# Altium footprint library M4QIDB-PCB-01.PcbLib: 64 footprints (part 2 of 4)
Each footprint in its own frame and in the unit in brackets; x right, y up, seen from the top. Pads: shape width x height; smd on the part's side, far side on the other; paste and mask are expansions set on the pad; w line width, h text height; cw(c..) or ccw(c..) is an arc to the next point about the centre after c.
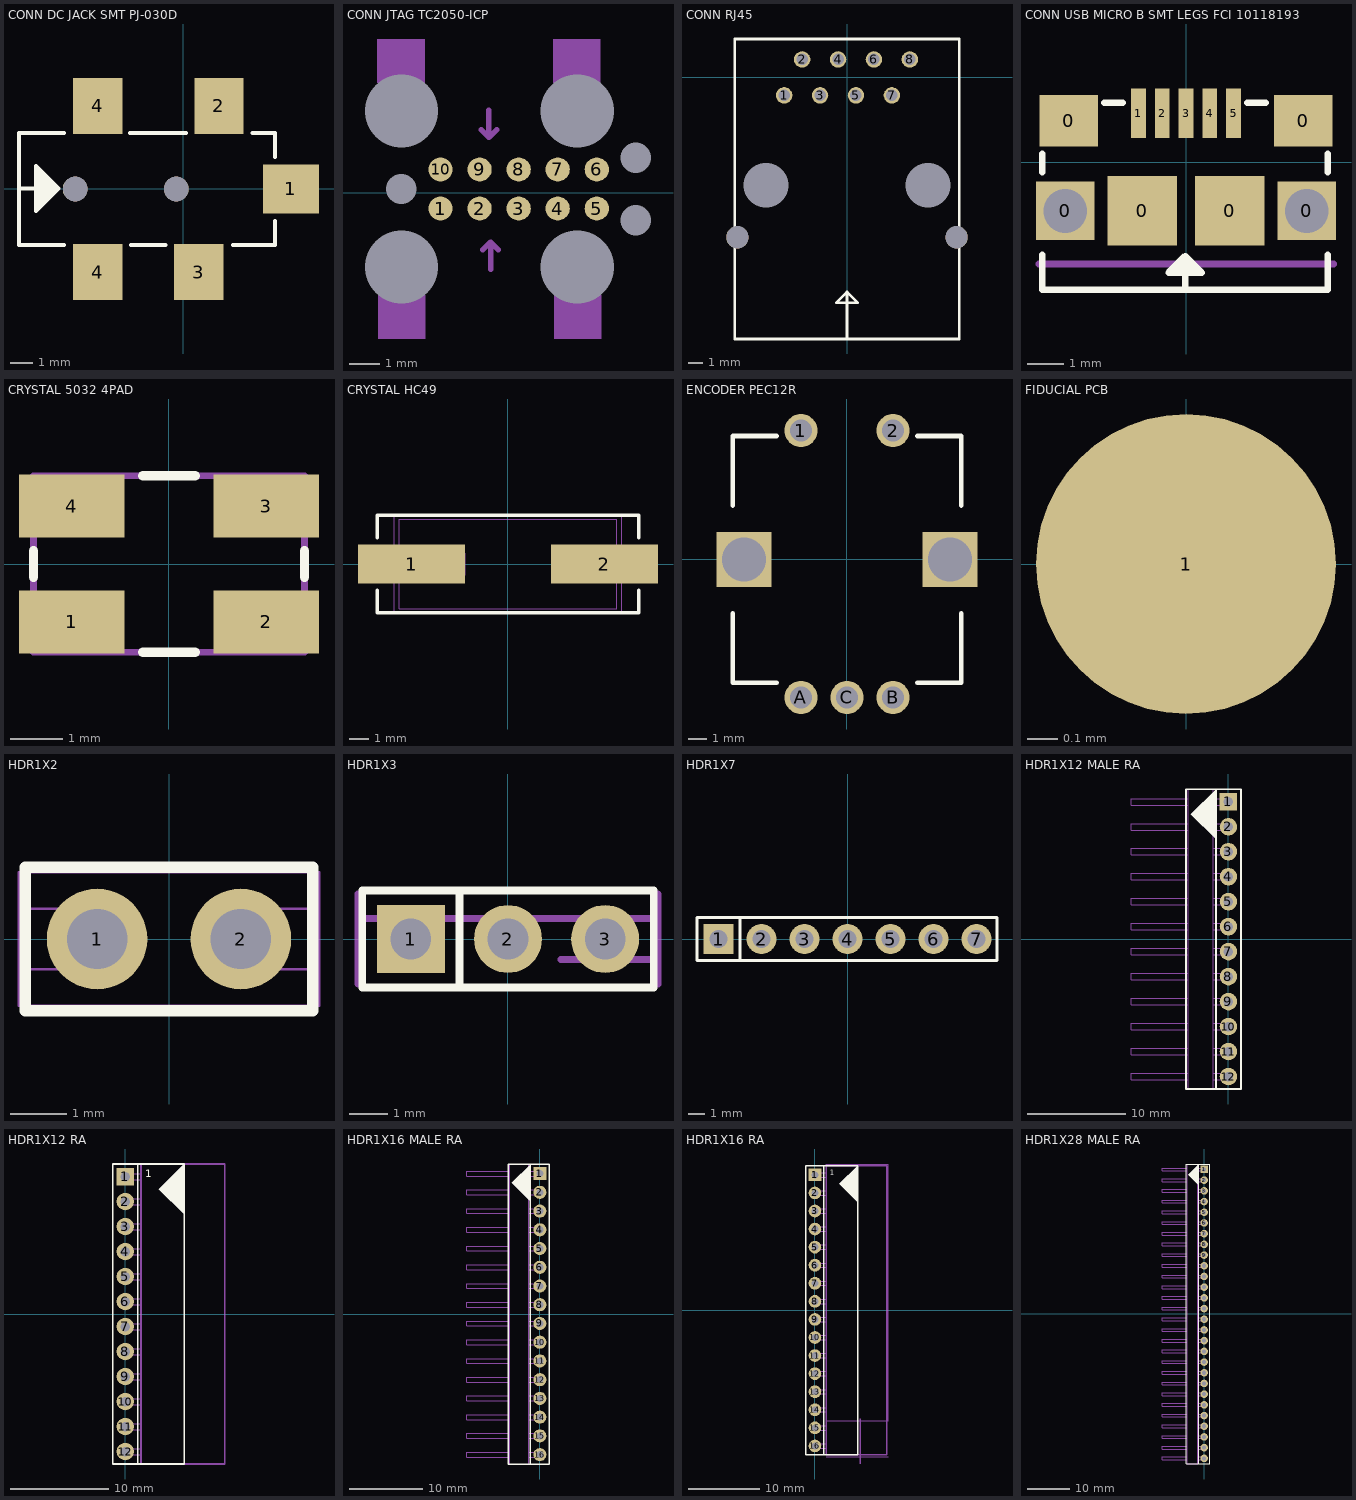
[diagram p1: the footprints below, top view; thin cyan lines are the x and y axes]

## CONN DC JACK SMT PJ-030D [mm]
pads (7):
  rect 2.5x2.2 smd: 1(4.8,0)
  rect 2.2x2.5 smd: 2(1.6,3.7) 3(0.7,-3.7) 4(-3.8,-3.7) 4(-3.8,3.7)
  round 1.1 hole 1.1 unplated: ""(-4.8,0) ""(-0.3,0)
Top Overlay:
  lines w0.178: -7.25,0.025 -5.55,0.025 ; -6.333,-0.758 -6.2,-0.625 -6.2,0.675 -6.375,0.85 ; -6.199,-0.624 -6.025,-0.45 -6.025,0.45 -5.85,0.275 -5.85,-0.275 -5.985,-0.41 ; -5.3,-2.5 -7.3,-2.5 -7.3,2.5 -5.3,2.5 ; -2.35,2.5 0.125,2.5 ; -2.325,-2.5 -0.775,-2.5 ; 2.225,-2.5 4.1,-2.5 4.1,-1.425 ; 3.1,2.5 4.1,2.5 4.1,1.425 ; -6.55,-0.975 -6.375,-0.8 -6.375,0.85 ; -6.55,-0.975 -6.55,1.025 ; -6.55,-0.975 -5.55,0.025 ; -6.55,1.025 -6.375,0.85 ; -6.55,1.025 -5.55,0.025
3D body: height 7.4, standoff -0.8, extent -7.325,-4.525 5.575,4.475

## CONN JTAG TC2050-ICP [mil]
pads (17):
  round 31 smd paste-100: 1(230.71,-20.08) 2(280.71,-20.08) 3(330.71,-20.08) 4(380.71,-20.08) 5(430.71,-20.08) 6(430.71,29.92) 7(380.71,29.92) 8(330.71,29.92) 9(280.71,29.92) 10(230.71,29.92)
  round 31 hole 93.5 unplated paste-100 mask-100: ""(180.71,-95.08) ""(180.71,104.92) ""(405.71,-95.08) ""(405.71,104.92)
  round 31 hole 39 unplated paste-100 mask-100: ""(180.71,4.92) ""(480.71,-35.08) ""(480.71,44.92)
Mechanical 5:
  lines w7: 282.71,80.92 292.71,70.92 ; 284.71,-73.08 294.71,-63.08 ; 292.71,105.92 292.71,70.92 ; 294.71,-98.08 294.71,-63.08 ; 302.71,80.92 292.71,70.92 ; 304.71,-73.08 294.71,-63.08
  text "ACCESS" at 237.71,-134.08 h20
  text "ACCESS" at 237.71,120.92 h20
Mechanical 6:
  rectangle: 150.71,-187.08 211.71,-131.08
  rectangle: 375.71,-187.08 436.71,-131.08
  region: 210.71,196.92 149.71,196.92 149.71,140.92 210.71,140.92
  region: 435.71,196.92 374.71,196.92 374.71,140.92 435.71,140.92

## CONN RJ45 [mil]
height 535
pads (12):
  round 46 hole 32: 1(-175,-50) 2(-125,50) 3(-75,-50) 4(-25,50) 5(25,-50) 6(75,50) 7(125,-50) 8(175,50)
  round 62 hole 62 unplated: ""(-305,-445) ""(305,-445)
  round 120 hole 125 unplated: ""(-225,-300) ""(225,-300)
Top Overlay:
  lines w7: 0,-728 0,-597.09 ; 0,-597.09 -30.51,-627.61 30.51,-627.61 0,-597.09 ; -312.5,-728 -312.5,107 312.5,107 312.5,-728 -312.5,-728

## CONN USB MICRO B SMT LEGS FCI 10118193 [mm]
pads (11):
  rect 1.6x1.6 hole 1.2: 0(-3.3,-1.337) 0(3.3,-1.337)
  rect 1.6x1.4 smd: 0(-3.2,1.126) 0(3.2,1.127)
  rect 1.9x1.9 smd: 0(-1.2,-1.337) 0(1.2,-1.337)
  rect 0.4x1.35 smd: 1(-1.3,1.338) 2(-0.65,1.338) 3(0,1.338) 4(0.65,1.338) 5(1.3,1.338)
Top Overlay:
  lines w0.178: -3.925,-3.487 3.875,-3.487 3.875,-2.537 ; -3.925,-3.471 -3.925,-2.537 ; -3.925,-0.28 -3.925,0.22 ; -2.235,1.62 -1.725,1.62 ; -0.303,-2.85 0.153,-2.85 0.175,-2.872 ; -0.025,-3.446 -0.025,-2.572 ; 1.675,1.62 2.185,1.62 ; 3.875,-0.28 3.875,0.22 ; -0.025,-2.572 -0.475,-3.022 0.425,-3.022 -0.025,-2.572
Mechanical 1:
  lines w0.178: -4.021,-2.787 4.039,-2.787
  text "BOARD EDGE" at -2.54,-3.113 h0.2
3D body: height 2.71, standoff -0.23, extent -3.99,-3.937 3.99,1.493

## CRYSTAL 5032 4PAD [mm]
pads (4):
  rect 2x1.2 smd: 1(-1.85,-1.1) 2(1.85,-1.1) 3(1.85,1.1) 4(-1.85,1.1)
Top Overlay:
  lines w0.178: -2.575,-0.25 -2.575,0.25 ; -0.5,-1.675 0.5,-1.675 ; -0.5,1.675 0.5,1.675 ; 2.575,-0.25 2.575,0.25
Mechanical 7:
  lines w0.127: -2.575,-1.675 2.575,-1.675 2.575,1.675 -2.575,1.675 -2.575,-1.675
3D body: height 1.05, standoff 1.05, extent -2.148,-1.399 -1.55,-0.801
3D body: height 1.05, standoff 0, extent -2.575,-1.675 2.575,1.675

## CRYSTAL HC49 [mm]
pads (2):
  rect 5.5x2 smd: 1(-4.95,0) 2(4.95,0)
Top Overlay:
  lines w0.178: -6.7,-1.35 -6.7,-2.5 6.7,-2.5 6.7,-1.35 ; -6.7,1.35 -6.7,2.5 6.7,2.5 6.7,1.35
Mechanical 7:
  lines w0.025: -6.65,-0.55 -2.2,-0.55 -2.2,0.55 -6.65,0.55 -6.65,-0.55 ; -5.85,-2.5 5.85,-2.5 5.85,2.5 -5.85,2.5 -5.85,-2.5 ; -5.588,-2.286 5.588,-2.286 5.588,2.286 -5.588,2.286 -5.588,-2.286
3D body: height 0.1, standoff 0, extent 2.2,-0.55 6.65,0.55
3D body: height 4.5, standoff 0, extent -5.588,-2.286 5.588,2.286
3D body: height 0.9, standoff 0, extent -5.85,-2.5 5.85,2.5
3D body: height 0.1, standoff 0, extent -6.65,-0.55 -2.2,0.55

## ENCODER PEC12R [mm]
height 20
pads (7):
  round 1.8 hole 1.2 paste+0: 1(-2.5,7) 2(2.5,7) A(-2.5,-7.5) B(2.5,-7.5) C(0,-7.5)
  rect 3x3 hole 2.4: ""(-5.6,0) ""(5.6,0)
Top Overlay:
  lines w0.254: -6.2,-2.925 -6.2,-6.7 -3.825,-6.7 ; -6.2,2.925 -6.2,6.7 -3.825,6.7 ; 3.825,-6.7 6.2,-6.7 6.2,-2.925 ; 3.825,6.7 6.2,6.7 6.2,2.925
3D body: height 20, standoff -3.5, extent -7,-7.7 7,7.05

## FIDUCIAL PCB [mm]
pads (1):
  round 1 smd paste-2.54 mask+0.102: 1(0,0)

## HDR1X2 [mil]
pads (2):
  round 70 hole 42: 1(-50,0) 2(50,0)
Top Overlay:
  lines w8: -100,-50 100,-50 100,50 -100,50 -100,-50
Mechanical 7:
  lines w1.97: -104.33,-21.06 -71.06,-21.06 ; -104.33,21.06 -71.06,21.06 ; -28.94,0 -50,0 ; 28.94,0 50,0 ; 104.33,-21.06 71.06,-21.06 ; 104.33,21.06 71.06,21.06 ; -71.06,-21.06 -50,-21.06 ; -71.06,-21.06 -71.06,0 ; -71.06,0 -71.06,21.06 ; -71.06,0 -50,0 ; -71.06,21.06 -50,21.06 ; -50,-21.06 -28.94,-21.06 -28.94,21.06 -50,21.06 ; -50,-21.06 -50,0 ; -50,0 -50,21.06 ; 50,-21.06 50,0 ; 50,-21.06 71.06,-21.06 ; 50,-21.06 28.94,-21.06 28.94,21.06 50,21.06 ; 50,0 71.06,0 ; 50,0 50,21.06 ; 50,21.06 71.06,21.06 ; 71.06,-21.06 71.06,0 ; 71.06,0 71.06,21.06 ; -104.33,-46.46 104.33,-46.46 104.33,46.46 -104.33,46.46 -104.33,-46.46
3D body: height 424.8, standoff -135.04, extent 28.93,-21.07 71.06,21.06
3D body: height 424.8, standoff -135.04, extent -71.06,-21.06 -28.94,21.06
3D body: height 129.92, standoff 0, extent 71.06,-21.06 104.33,21.06
3D body: height 129.92, standoff 0, extent -28.94,-21.06 28.94,21.06
3D body: height 129.92, standoff 0, extent -104.33,-21.06 -71.06,21.06
3D body: height 129.92, standoff 0, extent -104.33,-46.46 104.33,-21.06
3D body: height 129.92, standoff 0, extent -104.33,21.06 104.33,46.46

## HDR1X3 [mil]
pads (3):
  rect 70x70 hole 42: 1(-100,0)
  round 70 hole 42: 2(0,0) 3(100,0)
Top Overlay:
  lines w8: -50,-50 -50,50 ; -150,-50 -150,50 150,50 150,-50 -150,-50
Mechanical 7:
  lines w7: -154.33,-46.45 -154.33,46.46 ; -154.33,21.07 154.33,21.07 ; 54.33,-21.06 154.33,-21.06 ; 154.32,-46.46 154.32,46.45
3D body: height 334.65, standoff -118.11, extent 87.21,-12.8 112.8,12.79
3D body: height 334.65, standoff -118.11, extent -12.79,-12.8 12.8,12.79
3D body: height 334.65, standoff -118.11, extent -112.79,-12.8 -87.2,12.79
3D body: height 129.92, standoff 0, extent -154.33,21.07 154.33,46.46
3D body: height 129.92, standoff 0, extent -154.33,-46.46 154.33,-21.06
3D body: height 129.92, standoff 0, extent -154.33,-21.06 -121.06,21.07
3D body: height 129.92, standoff 0, extent -78.93,-21.06 -21.06,21.07
3D body: height 129.92, standoff 0, extent 21.07,-21.06 154.33,21.07

## HDR1X7 [mil]
pads (7):
  rect 70x70 hole 42: 1(-300,0)
  round 70 hole 42: 2(-200,0) 3(-100,0) 4(0,0) 5(100,0) 6(200,0) 7(300,0)
Top Overlay:
  lines w8: -250,-50 -250,50 ; -350,-50 347.64,-50 347.64,50 -350,50 -350,-50
3D body: height 129.92, standoff 0, extent 245.67,-21.06 278.94,21.06
3D body: height 424.8, standoff -135.04, extent 178.94,-21.06 221.07,21.07
3D body: height 424.8, standoff -135.04, extent 78.94,-21.06 121.07,21.07
3D body: height 129.92, standoff 0, extent 221.07,-21.06 254.34,21.07
3D body: height 129.92, standoff 0, extent 121.07,-21.06 178.94,21.07
3D body: height 129.92, standoff 0, extent 45.68,-21.06 78.94,21.07
3D body: height 129.92, standoff 0, extent 45.68,-46.45 254.34,-21.06
3D body: height 129.92, standoff 0, extent 45.68,21.07 254.34,46.46
3D body: height 424.8, standoff -135.04, extent -21.07,-21.07 21.06,21.06
3D body: height 424.8, standoff -135.04, extent -121.06,-21.06 -78.94,21.06
3D body: height 129.92, standoff 0, extent 21.06,-21.06 54.33,21.06
3D body: height 129.92, standoff 0, extent -78.94,-21.06 -21.06,21.06
3D body: height 129.92, standoff 0, extent -154.33,-21.06 -121.06,21.06
3D body: height 129.92, standoff 0, extent -154.33,-46.46 54.33,-21.06
3D body: height 129.92, standoff 0, extent -154.33,21.06 54.33,46.46
3D body: height 424.8, standoff -135.04, extent -221.07,-21.07 -178.94,21.06
3D body: height 424.8, standoff -135.04, extent -321.06,-21.06 -278.94,21.06
3D body: height 129.92, standoff 0, extent -178.94,-21.06 -145.67,21.06
3D body: height 129.92, standoff 0, extent -278.94,-21.06 -221.06,21.06
3D body: height 129.92, standoff 0, extent -354.33,-21.06 -321.06,21.06
3D body: height 129.92, standoff 0, extent -354.33,-46.46 -145.67,-21.06
3D body: height 129.92, standoff 0, extent -354.33,21.06 -145.67,46.46
3D body: height 129.92, standoff 0, extent 145.68,21.07 354.34,46.46
3D body: height 129.92, standoff 0, extent 145.68,-46.45 354.34,-21.06
3D body: height 129.92, standoff 0, extent 321.07,-21.06 354.34,21.07
3D body: height 424.8, standoff -135.04, extent 278.94,-21.06 321.07,21.07
3D body: height 424.8, standoff -135.04, extent 278.94,-21.06 321.07,21.07

## HDR1X12 MALE RA [mil]
pads (12):
  rect 70x70 hole 38: 1(0,550)
  round 70 hole 38: 2(0,450) 3(0,350) 4(0,250) 5(0,150) 6(0,50) 7(0,-50) 8(0,-150) 9(0,-250) 10(0,-350) 11(0,-450) 12(0,-550)
Top Overlay:
  region: -49.21,601.18 -49.21,400.39 -150.59,500.79
  lines w7: -50,-600 -50,600 ; -170,-600 -170,600 50,600 50,-600 -170,-600
Mechanical 7:
  lines w3.94: -160,-600 -60,-600 ; -160,-600 -60,-600 ; -160,-600 -160,600 -60,600 -60,-600 ; -13,-563 -60,-563 -60,-537 13,-537 ; -13,-563 -13,-537 13,-537 ; -13,-563 13,-563 13,-537 ; -13,-463 -60,-463 -60,-437 13,-437 ; -13,-463 -13,-437 13,-437 ; -13,-463 13,-463 13,-437 ; -13,-363 -60,-363 -60,-337 13,-337 ; -13,-363 -13,-337 13,-337 ; -13,-363 13,-363 13,-337 ; -13,-263 -60,-263 -60,-237 13,-237 ; -13,-263 -13,-237 13,-237 ; -13,-263 13,-263 13,-237 ; -13,-163 -60,-163 -60,-137 13,-137 ; -13,-163 -13,-137 13,-137 ; -13,-163 13,-163 13,-137 ; -13,-63 -60,-63 -60,-37 13,-37 ; -13,-63 -13,-37 13,-37 ; -13,-63 13,-63 13,-37 ; -13,37 -60,37 -60,63 13,63 ; -13,37 -13,63 13,63 ; -13,37 13,37 13,63 ; -13,137 -60,137 -60,163 13,163 ; -13,137 -13,163 13,163 ; -13,137 13,137 13,163 ; -13,237 -60,237 -60,263 13,263 ; -13,237 -13,263 13,263 ; -13,237 13,237 13,263 ; -13,337 -60,337 -60,363 13,363 ; -13,337 -13,363 13,363 ; -13,337 13,337 13,363 ; -13,437 -60,437 -60,463 13,463 ; -13,437 -13,463 13,463 ; -13,437 13,437 13,463 ; -13,537 13,537 13,563 ; -13,537 -13,563 13,563 ; -13,537 -60,537 -60,563 13,563 ; -390,-563 -160,-563 -160,-537 -390,-537 -390,-563 ; -390,-463 -160,-463 -160,-437 -390,-437 -390,-463 ; -390,-363 -160,-363 -160,-337 -390,-337 -390,-363 ; -390,-263 -160,-263 -160,-237 -390,-237 -390,-263 ; -390,-163 -160,-163 -160,-137 -390,-137 -390,-163 ; -390,-63 -160,-63 -160,-37 -390,-37 -390,-63 ; -390,37 -160,37 -160,63 -390,63 -390,37 ; -390,137 -160,137 -160,163 -390,163 -390,137 ; -390,237 -160,237 -160,263 -390,263 -390,237 ; -390,337 -160,337 -160,363 -390,363 -390,337 ; -390,437 -160,437 -160,463 -390,463 -390,437 ; -390,537 -390,563 -160,563 -160,537 -390,537
3D body: height 95, standoff 0, extent -160,-600 -60,600
3D body: height 61, standoff -100, extent -13,537 13,563
3D body: height 61, standoff 35, extent -60,537 -13,563
3D body: height 61, standoff 35, extent -390,537 -160,563
3D body: height 61, standoff 35, extent -390,437 -160,463
3D body: height 61, standoff 35, extent -60,437 -13,463
3D body: height 61, standoff -100, extent -13,437 13,463
3D body: height 61, standoff 35, extent -390,337 -160,363
3D body: height 61, standoff 35, extent -60,337 -13,363
3D body: height 61, standoff -100, extent -13,337 13,363
3D body: height 61, standoff 35, extent -390,237 -160,263
3D body: height 61, standoff 35, extent -60,237 -13,263
3D body: height 61, standoff -100, extent -13,237 13,263
3D body: height 61, standoff 35, extent -390,137 -160,163
3D body: height 61, standoff 35, extent -60,137 -13,163
3D body: height 61, standoff -100, extent -13,137 13,163
3D body: height 61, standoff 35, extent -390,37 -160,63
3D body: height 61, standoff 35, extent -60,37 -13,63
3D body: height 61, standoff -100, extent -13,37 13,63
3D body: height 61, standoff 35, extent -390,-63 -160,-37
3D body: height 61, standoff 35, extent -60,-63 -13,-37
3D body: height 61, standoff -100, extent -13,-63 13,-37
3D body: height 61, standoff 35, extent -390,-163 -160,-137
3D body: height 61, standoff 35, extent -60,-163 -13,-137
3D body: height 61, standoff -100, extent -13,-163 13,-137
3D body: height 61, standoff 35, extent -390,-263 -160,-237
3D body: height 61, standoff 35, extent -60,-263 -13,-237
3D body: height 61, standoff -100, extent -13,-263 13,-237
3D body: height 61, standoff 35, extent -390,-363 -160,-337
3D body: height 61, standoff 35, extent -60,-363 -13,-337
3D body: height 61, standoff -100, extent -13,-363 13,-337
3D body: height 61, standoff 35, extent -390,-463 -160,-437
3D body: height 61, standoff 35, extent -60,-463 -13,-437
3D body: height 61, standoff -100, extent -13,-463 13,-437
3D body: height 61, standoff 35, extent -390,-563 -160,-537
3D body: height 61, standoff 35, extent -60,-563 -13,-537
3D body: height 61, standoff -100, extent -13,-563 13,-537

## HDR1X12 RA [mil]
pads (12):
  rect 70x70 hole 38: 1(0,550)
  round 70 hole 38: 2(0,450) 3(0,350) 4(0,250) 5(0,150) 6(0,50) 7(0,-50) 8(0,-150) 9(0,-250) 10(0,-350) 11(0,-450) 12(0,-550)
Top Overlay:
  region: 236.22,600.2 236.22,399.41 134.84,499.8
  lines w7: -50,600 -50,-600 236.22,-600 236.22,600.2 -50,600.07 ; 50,-600 50,600
  text "1" at 80.71,547.64 h30
Mechanical 5:
  lines w7: 62.99,-600 62.99,600 397.64,600 397.64,-600 62.99,-600
Mechanical 7:
  lines w1: -8,-550 8,-550 ; -8,-450 8,-450 ; -8,-350 8,-350 ; -8,-250 8,-250 ; -8,-150 8,-150 ; -8,-50 8,-50 ; -8,50 8,50 ; -8,150 8,150 ; -8,250 8,250 ; -8,350 8,350 ; -8,450 8,450 ; -8,550 8,550 ; 0,-562 0,-538 ; 0,-462 0,-438 ; 0,-362 0,-338 ; 0,-262 0,-238 ; 0,-162 0,-138 ; 0,-62 0,-38 ; 0,38 0,62 ; 0,138 0,162 ; 0,238 0,262 ; 0,338 0,362 ; 0,438 0,462 ; 0,538 0,562 ; 63.8,-562 8,-562 ; 63.8,-538 8,-538 ; 63.8,-462 8,-462 ; 63.8,-438 8,-438 ; 63.8,-362 8,-362 ; 63.8,-338 8,-338 ; 63.8,-262 8,-262 ; 63.8,-238 8,-238 ; 63.8,-162 8,-162 ; 63.8,-138 8,-138 ; 63.8,-62 8,-62 ; 63.8,-38 8,-38 ; 63.8,38 8,38 ; 63.8,62 8,62 ; 63.8,138 8,138 ; 63.8,162 8,162 ; 63.8,238 8,238 ; 63.8,262 8,262 ; 63.8,338 8,338 ; 63.8,362 8,362 ; 63.8,438 8,438 ; 63.8,462 8,462 ; 63.8,538 8,538 ; 63.8,562 8,562 ; 8,-562 -8,-562 -8,-538 8,-538 ; 8,-562 8,-538 ; 8,-462 8,-438 ; 8,-462 -8,-462 -8,-438 8,-438 ; 8,-362 8,-338 ; 8,-362 -8,-362 -8,-338 8,-338 ; 8,-262 8,-238 ; 8,-262 -8,-262 -8,-238 8,-238 ; 8,-162 8,-138 ; 8,-162 -8,-162 -8,-138 8,-138 ; 8,-62 8,-38 ; 8,-62 -8,-62 -8,-38 8,-38 ; 8,38 8,62 ; 8,38 -8,38 -8,62 8,62 ; 8,138 8,162 ; 8,138 -8,138 -8,162 8,162 ; 8,238 8,262 ; 8,238 -8,238 -8,262 8,262 ; 8,338 8,362 ; 8,338 -8,338 -8,362 8,362 ; 8,438 8,462 ; 8,438 -8,438 -8,462 8,462 ; 8,538 8,562 ; 8,538 -8,538 -8,562 8,562
  lines w5: 63.8,-600 63.8,600 400,600 400,-600
3D body: height 66, standoff -132, extent -8,-562 8,-538
3D body: height 66, standoff -132, extent -7.99,-461.99 8.01,-437.99
3D body: height 66, standoff -132, extent -7.99,-361.99 8.01,-337.99
3D body: height 66, standoff -132, extent -7.99,-261.99 8.01,-237.99
3D body: height 66, standoff -132, extent -7.99,-161.99 8.01,-137.99
3D body: height 66, standoff -132, extent -7.99,-61.99 8.01,-37.99
3D body: height 66, standoff -132, extent -7.99,38.01 8.01,62.01
3D body: height 66, standoff -132, extent -7.99,138.01 8.01,162.01
3D body: height 66, standoff -132, extent -7.99,238.01 8.01,262.01
3D body: height 66, standoff -132, extent -7.99,338.01 8.01,362.01
3D body: height 66, standoff -132, extent -7.99,438.01 8.01,462.01
3D body: height 66, standoff -132, extent -7.99,538.01 8.01,562.01
3D body: height 66, standoff 42, extent 8,-562 63.8,-538
3D body: height 66, standoff 42, extent 8.01,-461.99 63.81,-437.99
3D body: height 66, standoff 42, extent 8.01,-361.99 63.81,-337.99
3D body: height 66, standoff 42, extent 8.01,-261.99 63.81,-237.99
3D body: height 66, standoff 42, extent 8.01,-161.99 63.81,-137.99
3D body: height 66, standoff 42, extent 8.01,-61.99 63.81,-37.99
3D body: height 66, standoff 42, extent 8.01,38.01 63.81,62.01
3D body: height 66, standoff 42, extent 8.01,138.01 63.81,162.01
3D body: height 66, standoff 42, extent 8.01,238.01 63.81,262.01
3D body: height 66, standoff 42, extent 8.01,338.01 63.81,362.01
3D body: height 66, standoff 42, extent 8.01,438.01 63.81,462.01
3D body: height 66, standoff 42, extent 8.01,538.01 63.81,562.01
3D body: height 108, standoff 0, extent 62.99,-600 400,600

## HDR1X16 MALE RA [mil]
pads (16):
  rect 70x70 hole 38: 1(0,750)
  round 70 hole 38: 2(0,650) 3(0,550) 4(0,450) 5(0,350) 6(0,250) 7(0,150) 8(0,50) 9(0,-50) 10(0,-150) 11(0,-250) 12(0,-350) 13(0,-450) 14(0,-550) 15(0,-650) 16(0,-750)
Top Overlay:
  region: -49.21,801.18 -49.21,600.39 -150.59,700.79
  lines w7: -50,-800 -50,800 ; -170,-800 -170,800 50,800 50,-800 -170,-800
Mechanical 7:
  drawing of 181 lines, arcs and shapes, not listed
3D body: height 61, standoff -100, extent -13,-763 13,-737
3D body: height 61, standoff 35, extent -60,-763 -13,-737
3D body: height 61, standoff 35, extent -390,-763 -160,-737
3D body: height 61, standoff -100, extent -13,-663 13,-637
3D body: height 61, standoff 35, extent -60,-663 -13,-637
3D body: height 61, standoff 35, extent -390,-663 -160,-637
3D body: height 61, standoff -100, extent -13,-563 13,-537
3D body: height 61, standoff 35, extent -60,-563 -13,-537
3D body: height 61, standoff 35, extent -390,-563 -160,-537
3D body: height 61, standoff -100, extent -13,-463 13,-437
3D body: height 61, standoff 35, extent -60,-463 -13,-437
3D body: height 61, standoff 35, extent -390,-463 -160,-437
3D body: height 95, standoff 0, extent -160,-800 -60,800
3D body: height 61, standoff -100, extent -13,737 13,763
3D body: height 61, standoff 35, extent -60,737 -13,763
3D body: height 61, standoff 35, extent -390,737 -160,763
3D body: height 61, standoff 35, extent -390,637 -160,663
3D body: height 61, standoff 35, extent -60,637 -13,663
3D body: height 61, standoff -100, extent -13,637 13,663
3D body: height 61, standoff 35, extent -390,537 -160,563
3D body: height 61, standoff 35, extent -60,537 -13,563
3D body: height 61, standoff -100, extent -13,537 13,563
3D body: height 61, standoff 35, extent -390,437 -160,463
3D body: height 61, standoff 35, extent -60,437 -13,463
3D body: height 61, standoff -100, extent -13,437 13,463
3D body: height 61, standoff 35, extent -390,337 -160,363
3D body: height 61, standoff 35, extent -60,337 -13,363
3D body: height 61, standoff -100, extent -13,337 13,363
3D body: height 61, standoff 35, extent -390,237 -160,263
3D body: height 61, standoff 35, extent -60,237 -13,263
3D body: height 61, standoff -100, extent -13,237 13,263
3D body: height 61, standoff 35, extent -390,137 -160,163
3D body: height 61, standoff 35, extent -60,137 -13,163
3D body: height 61, standoff -100, extent -13,137 13,163
3D body: height 61, standoff 35, extent -390,37 -160,63
3D body: height 61, standoff 35, extent -60,37 -13,63
3D body: height 61, standoff -100, extent -13,37 13,63
3D body: height 61, standoff 35, extent -390,-63 -160,-37
3D body: height 61, standoff 35, extent -60,-63 -13,-37
3D body: height 61, standoff -100, extent -13,-63 13,-37
3D body: height 61, standoff 35, extent -390,-163 -160,-137
3D body: height 61, standoff 35, extent -60,-163 -13,-137
3D body: height 61, standoff -100, extent -13,-163 13,-137
3D body: height 61, standoff 35, extent -390,-263 -160,-237
3D body: height 61, standoff 35, extent -60,-263 -13,-237
3D body: height 61, standoff -100, extent -13,-263 13,-237
3D body: height 61, standoff 35, extent -390,-363 -160,-337
3D body: height 61, standoff 35, extent -60,-363 -13,-337
3D body: height 61, standoff -100, extent -13,-363 13,-337

## HDR1X16 RA [mil]
pads (16):
  rect 70x70 hole 38: 1(0,750)
  round 70 hole 38: 2(0,650) 3(0,550) 4(0,450) 5(0,350) 6(0,250) 7(0,150) 8(0,50) 9(0,-50) 10(0,-150) 11(0,-250) 12(0,-350) 13(0,-450) 14(0,-550) 15(0,-650) 16(0,-750)
Top Overlay:
  region: 236.22,800.2 236.22,599.41 134.84,699.8
  lines w7: -50,800 -50,-800 236.22,-800 236.22,800.2 -50,800.07 ; 50,-800 50,800
  text "1" at 80.71,747.64 h30
Mechanical 5:
  lines w7: 250,-850 250,-600 ; 62.99,-800 397.64,-800 397.64,800 62.99,800 62.99,-800
  text "BOARD EDGE" at 43.31,-838.58 h20
Mechanical 7:
  lines w1: -8,-750 8,-750 ; -8,-650 8,-650 ; -8,-550 8,-550 ; -8,-450 8,-450 ; -8,-350 8,-350 ; -8,-250 8,-250 ; -8,-150 8,-150 ; -8,-50 8,-50 ; -8,50 8,50 ; -8,150 8,150 ; -8,250 8,250 ; -8,350 8,350 ; -8,450 8,450 ; -8,550 8,550 ; -8,650 8,650 ; -8,750 8,750 ; 0,-762 0,-738 ; 0,-662 0,-638 ; 0,-562 0,-538 ; 0,-462 0,-438 ; 0,-362 0,-338 ; 0,-262 0,-238 ; 0,-162 0,-138 ; 0,-62 0,-38 ; 0,38 0,62 ; 0,138 0,162 ; 0,238 0,262 ; 0,338 0,362 ; 0,438 0,462 ; 0,538 0,562 ; 0,638 0,662 ; 0,738 0,762 ; 63.8,-810 404.8,-810 ; 63.8,-762 8,-762 ; 63.8,-738 8,-738 ; 63.8,-662 8,-662 ; 63.8,-638 8,-638 ; 63.8,-562 8,-562 ; 63.8,-538 8,-538 ; 63.8,-462 8,-462 ; 63.8,-438 8,-438 ; 63.8,-362 8,-362 ; 63.8,-338 8,-338 ; 63.8,-262 8,-262 ; 63.8,-238 8,-238 ; 63.8,-162 8,-162 ; 63.8,-138 8,-138 ; 63.8,-62 8,-62 ; 63.8,-38 8,-38 ; 63.8,38 8,38 ; 63.8,62 8,62 ; 63.8,138 8,138 ; 63.8,162 8,162 ; 63.8,238 8,238 ; 63.8,262 8,262 ; 63.8,338 8,338 ; 63.8,362 8,362 ; 63.8,438 8,438 ; 63.8,462 8,462 ; 63.8,538 8,538 ; 63.8,562 8,562 ; 63.8,638 8,638 ; 63.8,662 8,662 ; 63.8,738 8,738 ; 63.8,762 8,762 ; 8,-762 8,-738 ; 8,-762 -8,-762 -8,-738 8,-738 ; 8,-662 -8,-662 -8,-638 8,-638 ; 8,-662 8,-638 ; 8,-562 -8,-562 -8,-538 8,-538 ; 8,-562 8,-538 ; 8,-462 8,-438 ; 8,-462 -8,-462 -8,-438 8,-438 ; 8,-362 8,-338 ; 8,-362 -8,-362 -8,-338 8,-338 ; 8,-262 -8,-262 -8,-238 8,-238 ; 8,-262 8,-238 ; 8,-162 -8,-162 -8,-138 8,-138 ; 8,-162 8,-138 ; 8,-62 -8,-62 -8,-38 8,-38 ; 8,-62 8,-38 ; 8,38 -8,38 -8,62 8,62 ; 8,38 8,62 ; 8,138 -8,138 -8,162 8,162 ; 8,138 8,162 ; 8,238 -8,238 -8,262 8,262 ; 8,238 8,262 ; 8,338 -8,338 -8,362 8,362 ; 8,338 8,362 ; 8,438 -8,438 -8,462 8,462 ; 8,438 8,462 ; 8,538 -8,538 -8,562 8,562 ; 8,538 8,562 ; 8,638 -8,638 -8,662 8,662 ; 8,638 8,662 ; 8,738 -8,738 -8,762 8,762 ; 8,738 8,762 ; 63.8,-610 63.8,810 404.8,810 404.8,-610 63.8,-610
3D body: height 66, standoff 42, extent 8.01,-661.99 63.81,-637.99
3D body: height 66, standoff 42, extent 8,-762 63.8,-738
3D body: height 66, standoff -132, extent -7.99,-661.99 8.01,-637.99
3D body: height 66, standoff -132, extent -8,-762 8,-738
3D body: height 108, standoff 0, extent 63.8,-810 404.8,810
3D body: height 66, standoff 42, extent 8.01,738.01 63.81,762.01
3D body: height 66, standoff 42, extent 8.01,638.01 63.81,662.01
3D body: height 66, standoff 42, extent 8.01,538.01 63.81,562.01
3D body: height 66, standoff 42, extent 8.01,438.01 63.81,462.01
3D body: height 66, standoff 42, extent 8.01,338.01 63.81,362.01
3D body: height 66, standoff 42, extent 8.01,238.01 63.81,262.01
3D body: height 66, standoff 42, extent 8.01,138.01 63.81,162.01
3D body: height 66, standoff 42, extent 8.01,38.01 63.81,62.01
3D body: height 66, standoff 42, extent 8.01,-61.99 63.81,-37.99
3D body: height 66, standoff 42, extent 8.01,-161.99 63.81,-137.99
3D body: height 66, standoff 42, extent 8.01,-261.99 63.81,-237.99
3D body: height 66, standoff 42, extent 8,-362 63.8,-338
3D body: height 66, standoff -132, extent -7.99,738.01 8.01,762.01
3D body: height 66, standoff -132, extent -7.99,638.01 8.01,662.01
3D body: height 66, standoff -132, extent -7.99,538.01 8.01,562.01
3D body: height 66, standoff -132, extent -7.99,438.01 8.01,462.01
3D body: height 66, standoff -132, extent -7.99,338.01 8.01,362.01
3D body: height 66, standoff -132, extent -7.99,238.01 8.01,262.01
3D body: height 66, standoff -132, extent -7.99,138.01 8.01,162.01
3D body: height 66, standoff -132, extent -7.99,38.01 8.01,62.01
3D body: height 66, standoff -132, extent -7.99,-61.99 8.01,-37.99
3D body: height 66, standoff -132, extent -7.99,-161.99 8.01,-137.99
3D body: height 66, standoff -132, extent -7.99,-261.99 8.01,-237.99
3D body: height 66, standoff -132, extent -8,-362 8,-338
3D body: height 66, standoff -132, extent -8,-562 8,-538
3D body: height 66, standoff -132, extent -7.99,-461.99 8.01,-437.99
3D body: height 66, standoff 42, extent 8,-562 63.8,-538
3D body: height 66, standoff 42, extent 8.01,-461.99 63.81,-437.99

## HDR1X28 MALE RA [mil]
pads (28):
  rect 70x70 hole 38: 1(0,1350)
  round 70 hole 38: 2(0,1250) 3(0,1150) 4(0,1050) 5(0,950) 6(0,850) 7(0,750) 8(0,650) 9(0,550) 10(0,450) 11(0,350) 12(0,250) 13(0,150) 14(0,50) 15(0,-50) 16(0,-150) 17(0,-250) 18(0,-350) 19(0,-450) 20(0,-550) 21(0,-650) 22(0,-750) 23(0,-850) 24(0,-950) 25(0,-1050) 26(0,-1150) 27(0,-1250) 28(0,-1350)
Top Overlay:
  region: -49.21,1401.18 -49.21,1200.39 -150.59,1300.79
  lines w7: -50,-1400 -50,1400 ; -170,-1400 50,-1400 50,1400 -170,1400 -170,-1400
Mechanical 7:
  drawing of 265 lines, arcs and shapes, not listed
3D body: height 61, standoff 35, extent -60,-1363 -13,-1337
3D body: height 61, standoff 35, extent -390,-1363 -160,-1337
3D body: height 61, standoff 35, extent -60,-1263 -13,-1237
3D body: height 61, standoff 35, extent -390,-1263 -160,-1237
3D body: height 61, standoff 35, extent -60,-1163 -13,-1137
3D body: height 61, standoff 35, extent -390,-1163 -160,-1137
3D body: height 61, standoff 35, extent -60,-1063 -13,-1037
3D body: height 61, standoff 35, extent -390,-1063 -160,-1037
3D body: height 61, standoff 35, extent -390,-263 -160,-237
3D body: height 61, standoff 35, extent -60,-263 -13,-237
3D body: height 61, standoff 35, extent -390,-363 -160,-337
3D body: height 61, standoff 35, extent -60,-363 -13,-337
3D body: height 61, standoff 35, extent -390,-463 -160,-437
3D body: height 61, standoff 35, extent -60,-463 -13,-437
3D body: height 61, standoff 35, extent -390,-563 -160,-537
3D body: height 61, standoff 35, extent -60,-563 -13,-537
3D body: height 61, standoff 35, extent -390,-663 -160,-637
3D body: height 61, standoff 35, extent -60,-663 -13,-637
3D body: height 61, standoff 35, extent -390,-763 -160,-737
3D body: height 61, standoff 35, extent -60,-763 -13,-737
3D body: height 61, standoff 35, extent -390,-863 -160,-837
3D body: height 61, standoff 35, extent -60,-863 -13,-837
3D body: height 61, standoff 35, extent -390,-963 -160,-937
3D body: height 61, standoff 35, extent -60,-963 -13,-937
3D body: height 61, standoff -100, extent -13,237 13,263
3D body: height 61, standoff 35, extent -60,237 -13,263
3D body: height 61, standoff 35, extent -390,237 -160,263
3D body: height 61, standoff -100, extent -13,337 13,363
3D body: height 61, standoff 35, extent -60,337 -13,363
3D body: height 61, standoff 35, extent -390,337 -160,363
3D body: height 61, standoff -100, extent -13,437 13,463
3D body: height 61, standoff 35, extent -60,437 -13,463
3D body: height 61, standoff 35, extent -390,437 -160,463
3D body: height 61, standoff -100, extent -13,537 13,563
3D body: height 61, standoff 35, extent -60,537 -13,563
3D body: height 61, standoff 35, extent -390,537 -160,563
3D body: height 61, standoff -100, extent -13,637 13,663
3D body: height 61, standoff 35, extent -60,637 -13,663
3D body: height 61, standoff 35, extent -390,637 -160,663
3D body: height 61, standoff -100, extent -13,737 13,763
3D body: height 61, standoff 35, extent -60,737 -13,763
3D body: height 61, standoff 35, extent -390,737 -160,763
3D body: height 61, standoff -100, extent -13,837 13,863
3D body: height 61, standoff 35, extent -60,837 -13,863
3D body: height 61, standoff 35, extent -390,837 -160,863
3D body: height 61, standoff -100, extent -13,937 13,963
3D body: height 61, standoff 35, extent -60,937 -13,963
3D body: height 61, standoff 35, extent -390,937 -160,963
3D body: height 61, standoff -100, extent -13,1037 13,1063
3D body: height 61, standoff 35, extent -60,1037 -13,1063
3D body: height 61, standoff 35, extent -390,1037 -160,1063
3D body: height 61, standoff -100, extent -13,1137 13,1163
3D body: height 61, standoff 35, extent -60,1137 -13,1163
3D body: height 61, standoff 35, extent -390,1137 -160,1163
3D body: height 61, standoff -100, extent -13,1237 13,1263
3D body: height 61, standoff 35, extent -60,1237 -13,1263
3D body: height 61, standoff 35, extent -390,1237 -160,1263
3D body: height 61, standoff 35, extent -390,1337 -160,1363
3D body: height 61, standoff 35, extent -60,1337 -13,1363
3D body: height 61, standoff -100, extent -13,1337 13,1363
3D body: height 95, standoff 0, extent -160,-1400 -60,1400
3D body: height 61, standoff 35, extent -390,137 -160,163
3D body: height 61, standoff 35, extent -60,137 -13,163
3D body: height 61, standoff -100, extent -13,137 13,163
3D body: height 61, standoff 35, extent -390,37 -160,63
3D body: height 61, standoff 35, extent -60,37 -13,63
3D body: height 61, standoff -100, extent -13,37 13,63
3D body: height 61, standoff 35, extent -390,-63 -160,-37
3D body: height 61, standoff 35, extent -60,-63 -13,-37
3D body: height 61, standoff -100, extent -13,-63 13,-37
3D body: height 61, standoff 35, extent -390,-163 -160,-137
3D body: height 61, standoff 35, extent -60,-163 -13,-137
3D body: height 61, standoff -100, extent -13,-163 13,-137